# Altium footprint library 0.22uF Thru hole.PcbLib: 1 footprints
Each footprint in its own frame and in the unit in brackets; x right, y up, seen from the top. Pads: shape width x height; smd on the part's side, far side on the other; paste and mask are expansions set on the pad; w line width, h text height; cw(c..) or ccw(c..) is an arc to the next point about the centre after c.
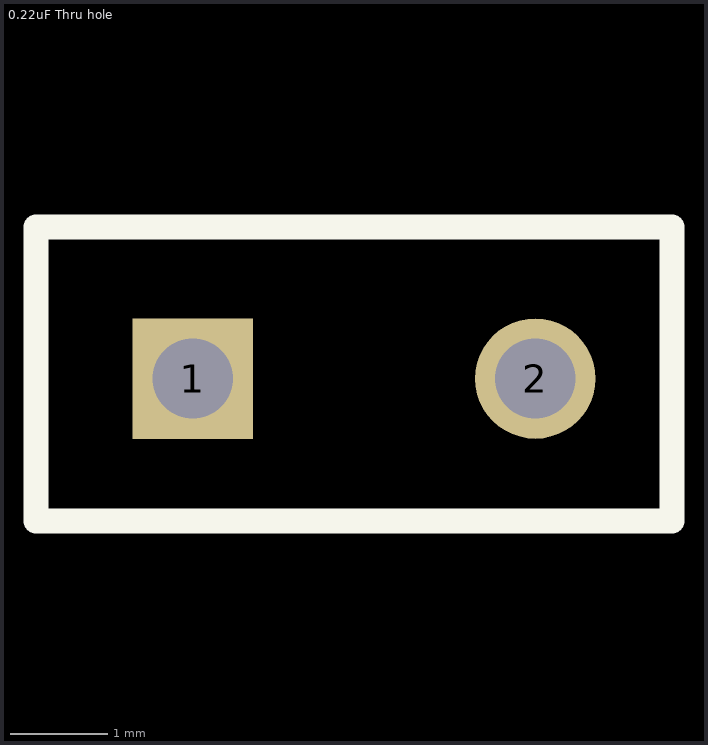
[diagram p0: the footprint, top view; thin cyan lines are the x and y axes]

## 0.22uF Thru hole [mm]
pads (2):
  rect 1.23x1.23 hole 0.82: 1(-66.898,-218.047)
  round 1.23 hole 0.82: 2(-63.398,-218.047)
Top Overlay:
  lines w0.254: -68.5,-219.5 -62,-219.5 -62,-216.5 -68.5,-216.5 -68.5,-219.5